# Altium integrated library TL084CN.IntLib: 1 symbol
Pins are listed as number, name and electrical type; pins without a type are passive.

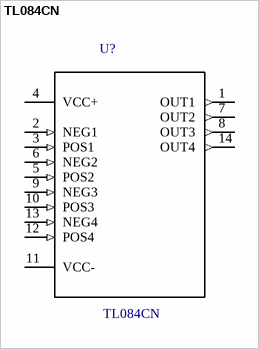
[diagram p0: symbol TL084CN]

## TL084CN
designator U?
J-FET Amplifier 4 Circuit 14-DIP; MF: STMicroelectronics; Package: DIP-14 STMicroelectronics; MP: TL084CN; Price: None; SnapEDA_Link: https://www.snapeda.com/parts/TL084CN/STMicroelectronics/view-part/1137005/?ref=snap; Availability: Unavailable; Value: *
footprint *DIP254P762X510-14
pins: 1 OUT1 (out), 2 NEG1 (in), 3 POS1 (in), 4 VCC+ (power), 5 POS2 (in), 6 NEG2 (in), 7 OUT2 (out), 8 OUT3 (out), 9 NEG3 (in), 10 POS3 (in), 11 VCC- (power), 12 POS4 (in), 13 NEG4 (in), 14 OUT4 (out)